# EAGLE library part MM74HC4053MTCX (library Fairchild_By_element14_Batch_1)
Analog Multiplexer
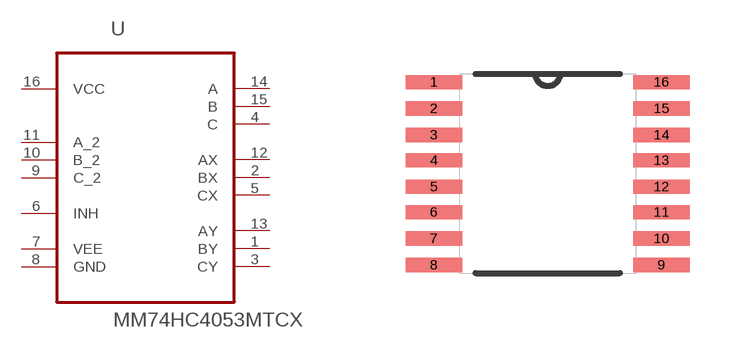
[diagram p288: symbol with the pads of SOP65P640X110-16N; footprint SOP65P640X110-16N]

Designator prefix U

## MM74HC4053MTCX (MPN: MM74HC4053MTCX; OC_FARNELL: 1471000; OC_NEWARK: 34C1303; PACKAGE: TSSOP-16; SUPPLIER: FAIRCHILD SEMICONDUCTOR)  [SOP65P640X110-16N]
1  BY
2  BX
3  CY
4  C
5  CX
6  INH  in
7  VEE  pwr
8  GND  pas
9  C_2  in
10  B_2  in
11  A_2  in
12  AX
13  AY
14  A
15  B
16  VCC  pwr

## Footprint SOP65P640X110-16N (pad centres in mm)
smd 1.422 x 0.356: 1 -2.845,2.286; 2 -2.845,1.626; 3 -2.845,0.965; 4 -2.845,0.33; 5 -2.845,-0.33; 6 -2.845,-0.965; 7 -2.845,-1.626; 8 -2.845,-2.286; 9 2.845,-2.286; 10 2.845,-1.626; 11 2.845,-0.965; 12 2.845,-0.33; 13 2.845,0.33; 14 2.845,0.965; 15 2.845,1.626; 16 2.845,2.286